# Altium schematic symbol library MY_SCHLIB0.2.SchLib: 3 symbols
Pins are listed as number, name and electrical type; pins without a type are passive.

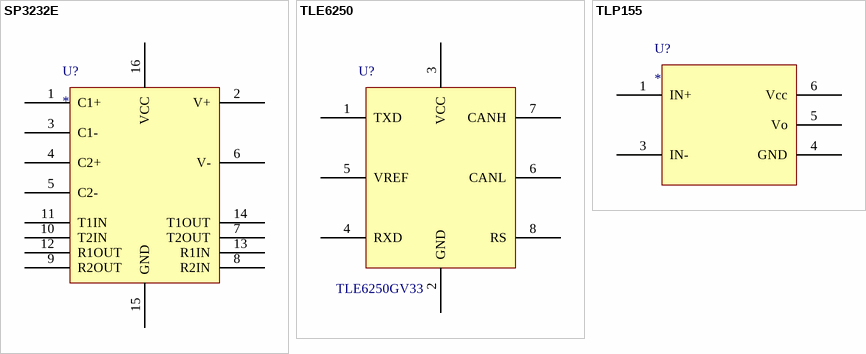
[diagram p0: symbols SP3232E to TLP155]

## SP3232E
designator U?
footprint SO-16
pins: 1 C1+, 2 V+, 3 C1-, 4 C2+, 5 C2-, 6 V-, 7 T2OUT, 8 R2IN, 9 R2OUT, 10 T2IN, 11 T1IN, 12 R1OUT, 13 R1IN, 14 T1OUT, 15 GND, 16 VCC

## TLE6250
designator U?  (value not drawn)
footprint SO-8
pins: 1 TXD, 2 GND, 3 VCC, 4 RXD, 5 VREF, 6 CANL, 7 CANH, 8 RS
text: TLE6250GV33

## TLP155
designator U?
footprint so6
pins: 1 IN+, 3 IN-, 4 GND, 5 Vo, 6 Vcc